# Altium schematic symbol library 2220B225K251CT.SchLib: 1 symbol
Pins are listed as number, name and electrical type; pins without a type are passive.

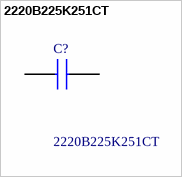
[diagram p0: symbol 2220B225K251CT]

## 2220B225K251CT
designator C?
Multilayer Ceramic Capacitors MLCC - SMD/SMT 2220 MLCC X7R 2.2 uF '+/- 10% 250 V T&R MH; Manufacturer_Name: Walsin Technology Corporation; Geometry.Height: 2.2mm; Mouser Part Number: 791-2220B225K251CT; Mouser Price/Stock: https://www.mouser.co.uk/ProductDetail/Walsin/2220B225K251CT?qs=wUXugUrL1qxv5pi1nAqMEA%3D%3D; Manufacturer_Part_Number: 2220B225K251CT; Datasheet Link: https://www.mouser.es/datasheet/2/210/Middle_and_High_Voltage_DS-1535659.pdf
footprint CAPC5750X220N
pins: 1, 2